# Altium schematic symbol library iv_RLC.SchLib: 27 symbols
Pins are listed as number, name and electrical type; pins without a type are passive.

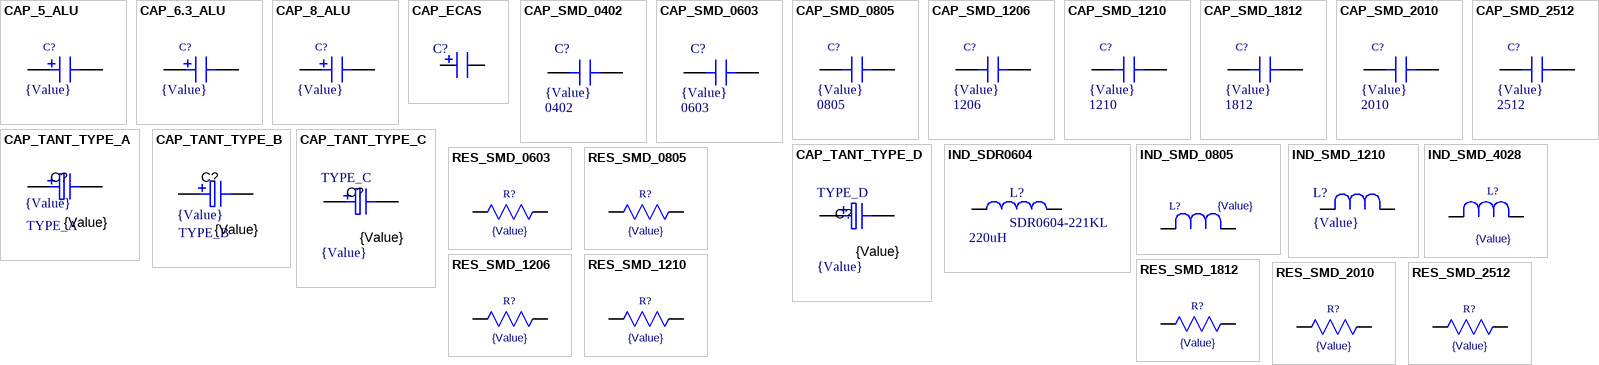
[diagram p0: symbols CAP_5_ALU to RES_SMD_2512]

## CAP_5_ALU
designator C?, comment {Value}
Capacitor; Case: D5; Value: {Value}
footprint CAPAE6153X55L (Aluminum Electrolytic Capacitor, Body 5,30x5,30x5,50mm, IPC High Density)
footprint CAPAE6153X55N (Aluminum Electrolytic Capacitor, Body 5,30x5,30x5,50mm, IPC Medium Density)
footprint CAPAE6153X55M (Aluminum Electrolytic Capacitor, Body 5,30x5,30x5,50mm, IPC Low Density)
pins: 1, 2

## CAP_6.3_ALU
designator C?, comment {Value}
Capacitor; Value: {Value}; Case: D6.3
footprint CAPAE7266X55L (Aluminum Electrolytic Capacitor, Body 6,60x6,60x5,50mm, IPC High Density)
footprint CAPAE7266X55N (Aluminum Electrolytic Capacitor, Body 6,60x6,60x5,50mm, IPC Medium Density)
footprint CAPAE7266X55M (Aluminum Electrolytic Capacitor, Body 6,60x6,60x5,50mm, IPC Low Density)
footprint CAPAE7266X80L (Aluminum Electrolytic Capacitor, Body 6,60x6,60x8,00mm, IPC High Density)
footprint CAPAE7266X80N (Aluminum Electrolytic Capacitor, Body 6,60x6,60x8,00mm, IPC Medium Density)
footprint CAPAE7266X80M (Aluminum Electrolytic Capacitor, Body 6,60x6,60x8,00mm, IPC Low Density)
pins: 1, 2

## CAP_8_ALU
designator C?, comment {Value}
Capacitor; Value: {Value}; Case: D8
footprint CAPAE9283X65L (Aluminum Electrolytic Capacitor, Body 8,30x8,30x6,50mm, IPC High Density)
footprint CAPAE9283X65N (Aluminum Electrolytic Capacitor, Body 8,30x8,30x6,50mm, IPC Medium Density)
footprint CAPAE9283X65M (Aluminum Electrolytic Capacitor, Body 8,30x8,30x6,50mm, IPC Low Density)
footprint CAPAE10183X105L (Aluminum Electrolytic Capacitor, Body 8,30x8,30x10,50mm, IPC High Density)
footprint CAPAE10183X105N (Aluminum Electrolytic Capacitor, Body 8,30x8,30x10,50mm, IPC Medium Density)
footprint CAPAE10183X105M (Aluminum Electrolytic Capacitor, Body 8,30x8,30x10,50mm, IPC Low Density)
pins: 1, 2

## CAP_ECAS
designator C?, comment {Value}  (value not drawn)
Murata polymer aluminium electrolytic capacitor; Value: {Value}
footprint ECAS7343 (Molded Capacitor, 2-Leads, Body 7,30x4,30mm, IPC Low Density)
pins: 1, 2

## CAP_SMD_0402
designator C?, comment Case: 0402  (hidden comment: {Value})
Capacitor; Value: {Value}
footprint CAPC1005X04L (Chip Capacitor, 2-Leads, Body 1,00x0,50mm, IPC High Density)
footprint CAPC1005X04N (Chip Capacitor, 2-Leads, Body 1,00x0,50mm, IPC Medium Density)
footprint CAPC1005X04M (Chip Capacitor, 2-Leads, Body 1,00x0,50mm, IPC Low Density)
pins: 1, 2

## CAP_SMD_0603
designator C?, comment Case: 0603  (hidden comment: {Value})
Capacitor; Value: {Value}
footprint CAPC1608X06L (Chip Capacitor, 2-Leads, Body 1,60x0,85mm, IPC High Density)
footprint CAPC1608X06N (Chip Capacitor, 2-Leads, Body 1,60x0,85mm, IPC Medium Density)
footprint CAPC1608X06M (Chip Capacitor, 2-Leads, Body 1,60x0,85mm, IPC Low Density)
pins: 1, 2

## CAP_SMD_0805
designator C?, comment Case: 0805  (hidden comment: {Value})
Capacitor; Value: {Value}
footprint CAPC2012X07L (Chip Capacitor, 2-Leads, Body 2,00x1,25mm, IPC High Density)
footprint CAPC2012X07N (Chip Capacitor, 2-Leads, Body 2,00x1,25mm, IPC Medium Density)
footprint CAPC2012X07M (Chip Capacitor, 2-Leads, Body 2,00x1,25mm, IPC Low Density)
pins: 1, 2

## CAP_SMD_1206
designator C?, comment Case: 1206  (hidden comment: {Value})
Capacitor; Value: {Value}
footprint CAPC3115X07M (Chip Capacitor, 2-Leads, Body 3,13x1,55mm, IPC Low Density)
footprint CAPC3115X07N (Chip Capacitor, 2-Leads, Body 3,13x1,55mm, IPC Medium Density)
footprint CAPC3115X07L (Chip Capacitor, 2-Leads, Body 3,13x1,55mm, IPC High Density)
pins: 1, 2

## CAP_SMD_1210
designator C?, comment Case: 1210  (hidden comment: {Value})
Capacitor; Value: {Value}
footprint CAPC3225X07L (Chip Capacitor, 2-Leads, Body 3,20x2,50mm, IPC High Density)
footprint CAPC3225X07N (Chip Capacitor, 2-Leads, Body 3,20x2,50mm, IPC Medium Density)
footprint CAPC3225X07M (Chip Capacitor, 2-Leads, Body 3,20x2,50mm, IPC Low Density)
pins: 1, 2

## CAP_SMD_1812
designator C?, comment Case: 1812  (hidden comment: {Value})
Capacitor; Value: {Value}
footprint CAPC4532X07N (Chip Capacitor, 2-Leads, Body 4,50x3,20mm, IPC Medium Density)
footprint CAPC4532X07L (Chip Capacitor, 2-Leads, Body 4,50x3,20mm, IPC High Density)
footprint CAPC4532X07M (Chip Capacitor, 2-Leads, Body 4,50x3,20mm, IPC Low Density)
pins: 1, 2

## CAP_SMD_2010
designator C?, comment Case: 2010  (hidden comment: {Value})
Capacitor; Value: {Value}
footprint CAPC5025X07L (Chip Capacitor, 2-Leads, Body 5,00x2,50mm, IPC High Density)
footprint CAPC5025X07N (Chip Capacitor, 2-Leads, Body 5,00x2,50mm, IPC Medium Density)
footprint CAPC5025X07M (Chip Capacitor, 2-Leads, Body 5,00x2,50mm, IPC Low Density)
pins: 1, 2

## CAP_SMD_2512
designator C?, comment Case: 2512  (hidden comment: {Value})
Capacitor; Value: {Value}
footprint CAPC6432X07N (Chip Capacitor, 2-Leads, Body 6,40x3,20mm, IPC Medium Density)
footprint CAPC6432X07L (Chip Capacitor, 2-Leads, Body 6,40x3,20mm, IPC High Density)
footprint CAPC6432X07M (Chip Capacitor, 2-Leads, Body 6,40x3,20mm, IPC Low Density)
pins: 1, 2

## CAP_TANT_TYPE_A
designator C?, comment {Value}  Case: TYPE_A
Capacitor SMD Tantalum Type A; Value: {Value}
footprint CAPMP3216X18L (Molded Capacitor, 2-Leads, Body 3,20x1,60mm, IPC High Density)
footprint CAPMP3216X18N (Molded Capacitor, 2-Leads, Body 3,20x1,60mm, IPC Medium Density)
footprint CAPMP3216X18M (Molded Capacitor, 2-Leads, Body 3,20x1,60mm, IPC Low Density)
pins: 1, 2

## CAP_TANT_TYPE_B
designator C?, comment {Value}  Case: TYPE_B
Capacitor SMD Tantalum 47uF 20% 6.3V 1210; Value: {Value}
footprint CAPMP3529X21L (Molded Capacitor, 2-Leads, Body 3,50x2,85mm, IPC High Density)
footprint CAPMP3529X21N (Molded Capacitor, 2-Leads, Body 3,50x2,85mm, IPC Medium Density)
footprint CAPMP3529X21M (Molded Capacitor, 2-Leads, Body 3,50x2,85mm, IPC Low Density)
pins: 1, 2

## CAP_TANT_TYPE_C
designator C?, comment {Value}  Case: TYPE_C
Capacitor SMD Tantalum 1uF 10% 50V EIA 6032-28; Value: {Value}
footprint CAPMP6032X28L (Molded Capacitor, 2-Leads, Body 6,00x3,25mm, IPC High Density)
footprint CAPMP6032X28N (Molded Capacitor, 2-Leads, Body 6,00x3,25mm, IPC Medium Density)
footprint CAPMP6032X28M (Molded Capacitor, 2-Leads, Body 6,00x3,25mm, IPC Low Density)
pins: 1, 2

## CAP_TANT_TYPE_D
designator C?, comment {Value}  Case: TYPE_D
Capacitor SMD Tant 330uF 20% 6V3 2917; Value: {Value}
footprint CAPMP7344X31L (Molded Capacitor, 2-Leads, Body 7,30x4,35mm, IPC High Density)
footprint CAPMP7344X31N (Molded Capacitor, 2-Leads, Body 7,30x4,35mm, IPC Medium Density)
footprint CAPMP7344X31M (Molded Capacitor, 2-Leads, Body 7,30x4,35mm, IPC Low Density)
pins: 1, 2

## IND_SDR0604
designator L?, comment SDR0604-221KL  value 220uH
footprint SDR0604
pins: 1, 2

## IND_SMD_0805
designator L?, comment {Value}
Inductor; Value: {Value}; Case: 0805
footprint L_0805 (Inductor Pattern)
pins: 1, 2

## IND_SMD_1210
designator L?, comment {Value}
Inductor; Value: {Value}
footprint L_1210 (Chip Inductor, 2-Leads, Body 3,1x2,5mm, IPC Medium Density)
pins: 1, 2

## IND_SMD_4028
designator L?, comment {Value}
Inductor; Value: {Value}
footprint L_4028
pins: 1, 2

## RES_SMD_0603
designator R?, comment {Value}
Resistor; Case: 0603; Value: {Value}
footprint RESC1608X06L (Chip Resistor, 2-Leads, Body 1,60x0,85mm, IPC High Density)
footprint RESC1608X06N (Chip Resistor, 2-Leads, Body 1,60x0,85mm, IPC Medium Density)
footprint RESC1608X06M (Chip Resistor, 2-Leads, Body 1,60x0,85mm, IPC Low Density)
pins: 1, 2

## RES_SMD_0805
designator R?, comment {Value}
Resistor; Value: {Value}; Case: 0805
footprint RESC2012X07L (Chip Resistor, 2-Leads, Body 2,00x1,25mm, IPC High Density)
footprint RESC2012X07N (Chip Resistor, 2-Leads, Body 2,00x1,25mm, IPC Medium Density)
footprint RESC2012X07M (Chip Resistor, 2-Leads, Body 2,00x1,25mm, IPC Low Density)
pins: 1, 2

## RES_SMD_1206
designator R?, comment {Value}
Resistor; Case: 1206; Value: {Value}
footprint RESC3115X07L (Chip Resistor, 2-Leads, Body 3,13x1,55mm, IPC High Density)
footprint RESC3115X07N (Chip Resistor, 2-Leads, Body 3,13x1,55mm, IPC Medium Density)
footprint RESC3115X07M (Chip Resistor, 2-Leads, Body 3,13x1,55mm, IPC Low Density)
pins: 1, 2

## RES_SMD_1210
designator R?, comment {Value}
Resistor; Value: {Value}; Case: 1210
footprint RESC3225X07M (Chip Resistor, 2-Leads, Body 3,20x2,50mm, IPC Low Density)
footprint RESC3225X07L (Chip Resistor, 2-Leads, Body 3,20x2,50mm, IPC High Density)
footprint RESC3225X07N (Chip Resistor, 2-Leads, Body 3,20x2,50mm, IPC Medium Density)
pins: 1, 2

## RES_SMD_1812
designator R?, comment {Value}
Resistor; Value: {Value}; Case: 1812
footprint RESC4532X07M (Chip Resistor, 2-Leads, Body 4,50x3,20mm, IPC Low Density)
footprint RESC4532X07L (Chip Resistor, 2-Leads, Body 4,50x3,20mm, IPC High Density)
footprint RESC4532X07N (Chip Resistor, 2-Leads, Body 4,50x3,20mm, IPC Medium Density)
pins: 1, 2

## RES_SMD_2010
designator R?, comment {Value}
Resistor; Case: 2010; Value: {Value}
footprint RESC5025X07M (Chip Resistor, 2-Leads, Body 5,00x2,50mm, IPC Low Density)
footprint RESC5025X07L (Chip Resistor, 2-Leads, Body 5,00x2,50mm, IPC High Density)
footprint RESC5025X07N (Chip Resistor, 2-Leads, Body 5,00x2,50mm, IPC Medium Density)
pins: 1, 2

## RES_SMD_2512
designator R?, comment {Value}
Resistor; Case: 2512; Value: {Value}
footprint RESC6432X07L (Chip Resistor, 2-Leads, Body 6,40x3,20mm, IPC High Density)
footprint RESC6432X07N (Chip Resistor, 2-Leads, Body 6,40x3,20mm, IPC Medium Density)
footprint RESC6432X07M (Chip Resistor, 2-Leads, Body 6,40x3,20mm, IPC Low Density)
pins: 1, 2